# EAGLE library part 4028 (library #PaJa_31)
IO - dekoder 1 z 10
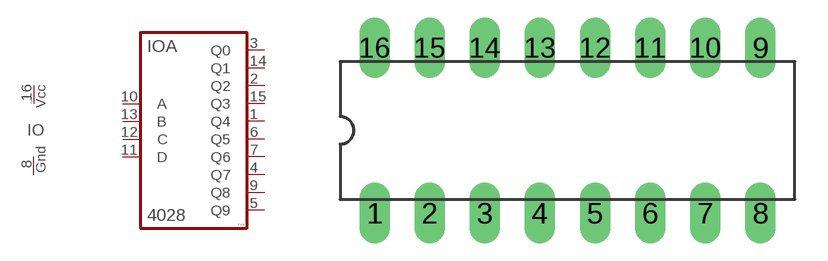
[diagram p21: symbol with the pads of DIL16; footprint DIL16]

Designator prefix IO; gates A=IO_4028 N=POWER

## 4028  [DIL16]
1  A:Q4  out
2  A:Q2  out
3  A:Q0  out
4  A:Q7  out
5  A:Q9  out
6  A:Q5  out
7  A:Q6  out
8  N:GND  pwr
9  A:Q8  out
10  A:A  in
11  A:D  in
12  A:C  in
13  A:B  in
14  A:Q1  out
15  A:Q3  out
16  N:VCC  pwr

## Footprint DIL16 (pad centres in mm)
drill 0.813 pad 1.4 long: 1 -8.89,-3.81; 2 -6.35,-3.81; 3 -3.81,-3.81; 4 -1.27,-3.81; 5 1.27,-3.81; 6 3.81,-3.81; 7 6.35,-3.81; 8 8.89,-3.81; 9 8.89,3.81; 10 6.35,3.81; 11 3.81,3.81; 12 1.27,3.81; 13 -1.27,3.81; 14 -3.81,3.81; 15 -6.35,3.81; 16 -8.89,3.81